# EAGLE library part ADAFRUIT_ADS1115 (library AD convertor)
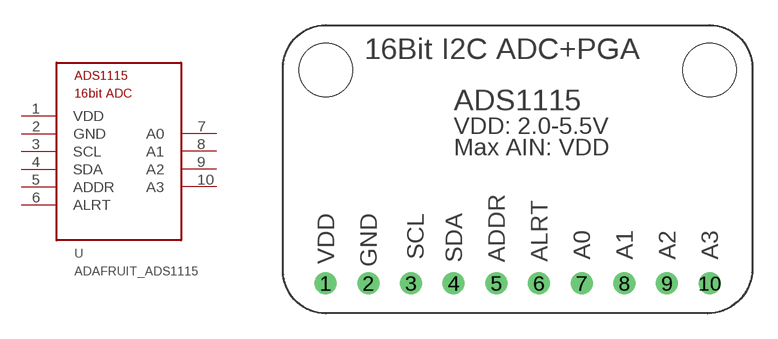
[diagram p3: symbol with the pads of ADAFRUIT_ADS1115_16BIT_I2C_ADC; footprint ADAFRUIT_ADS1115_16BIT_I2C_ADC]

Designator prefix U

## ADAFRUIT_ADS1115  [ADAFRUIT_ADS1115_16BIT_I2C_ADC]
1  VDD
2  GND
3  SCL
4  SDA
5  ADDR
6  ALRT
7  A0
8  A1
9  A2
10  A3

## Footprint ADAFRUIT_ADS1115_16BIT_I2C_ADC (pad centres in mm)
ADS1115 16-Bit ADC - 4 Channel with Programmable Gain Amplifier Maker: adafruit <http://www.adafruit.com/products/1085#Learn> Store: スイッチサイエンス <http://www.switch-science.com/catalog/1136/>
drill 0.8: 1 2.54,1.778; 2 5.08,1.778; 3 7.62,1.778; 4 10.16,1.778; 5 12.7,1.778; 6 15.24,1.778; 7 17.78,1.778; 8 20.32,1.778; 9 22.86,1.778; 10 25.4,1.778
hole 3.2 at 2.54,14.478
hole 3.2 at 25.4,14.478